# Altium schematic symbol library TPS3126E12_DBV_5.SchLib: 2 symbols
Pins are listed as number, name and electrical type; pins without a type are passive.

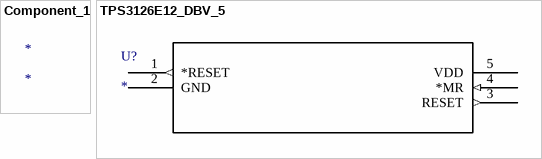
[diagram p0: symbols Component_1 to TPS3126E12_DBV_5]

## Component_1
designator *

## TPS3126E12_DBV_5
designator U?
Imported; Manufacturer_Part_Number: tps3126e12_dbv_5; GENERIC_PART_NUMBER: TPS3126E12; Vendor: Texas Instruments; PACKAGE_DESIGNATOR: DBV; PIN_COUNT: 5; FAMILY_NAME: SUPERVISOR AND RESET IC; INDUSTRY_STD_PKG_TYPE: SOT-23; Datasheet URL: http://www.ti.com/lit/gpn/TPS3126E12; Manufacturer: Texas Instruments; RefDes: RefDes; Type: DEV; Value: Value
footprint DBV5
pins: 1 *RESET (out), 2 GND (power), 3 RESET (out), 4 *MR (in), 5 VDD (power)